# Altium integrated library Sim_Nano.IntLib: 1 symbol
Pins are listed as number, name and electrical type; pins without a type are passive.

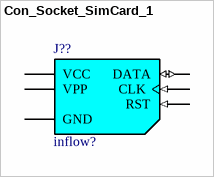
[diagram p0: symbol Con_Socket_SimCard_1]

## Con_Socket_SimCard_1
designator J??, comment Inflow: inflow?  (hidden comment: 6'Pin)
Nano SimCard Holder 6P; Rating: Rating?; Validation: NT; Package: SMD; Type: Nano; Value: 6'Pin
footprint GCT_SIM8051_Plastik
footprint GCT_SIM8051
pins: C1 VCC (power), C2 RST (in), C3 CLK (in), C5 GND (power), C6 VPP (power), C7 DATA (io)
2 alternate drawings of the same symbol